# EAGLE library part TPS54386PWPR (library FSAE Electric)
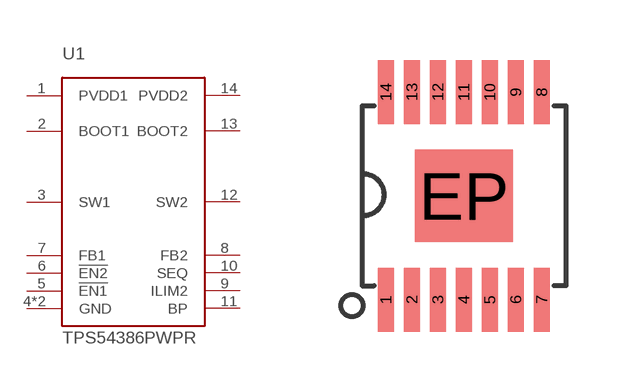
[diagram p103: symbol with the pads of TSSOP-14; footprint TSSOP-14]

Designator prefix U1

## TPS54386PWPR (PARTNO: TPS54386PWPR)  [TSSOP-14]
1  PVDD1
2  BOOT1
3  SW1
4  GND
5  !EN1
6  !EN2
7  FB1
8  FB2
9  ILIM2
10  SEQ
11  BP
12  SW2
13  BOOT2
14  PVDD2
EP  GND

## Footprint TSSOP-14 (pad centres in mm)
smd 0.4 x 1.6: 1 -1.95,-2.6; 2 -1.3,-2.6; 3 -0.65,-2.6; 4 0,-2.6; 5 0.65,-2.6; 6 1.3,-2.6; 7 1.95,-2.6; 8 1.95,2.6; 9 1.3,2.6; 10 0.65,2.6; 11 0,2.6; 12 -0.65,2.6; 13 -1.3,2.6; 14 -1.95,2.6
smd 2.46 x 2.31: EP 0,0